# EAGLE library part IC40HX-144 (library Custom)
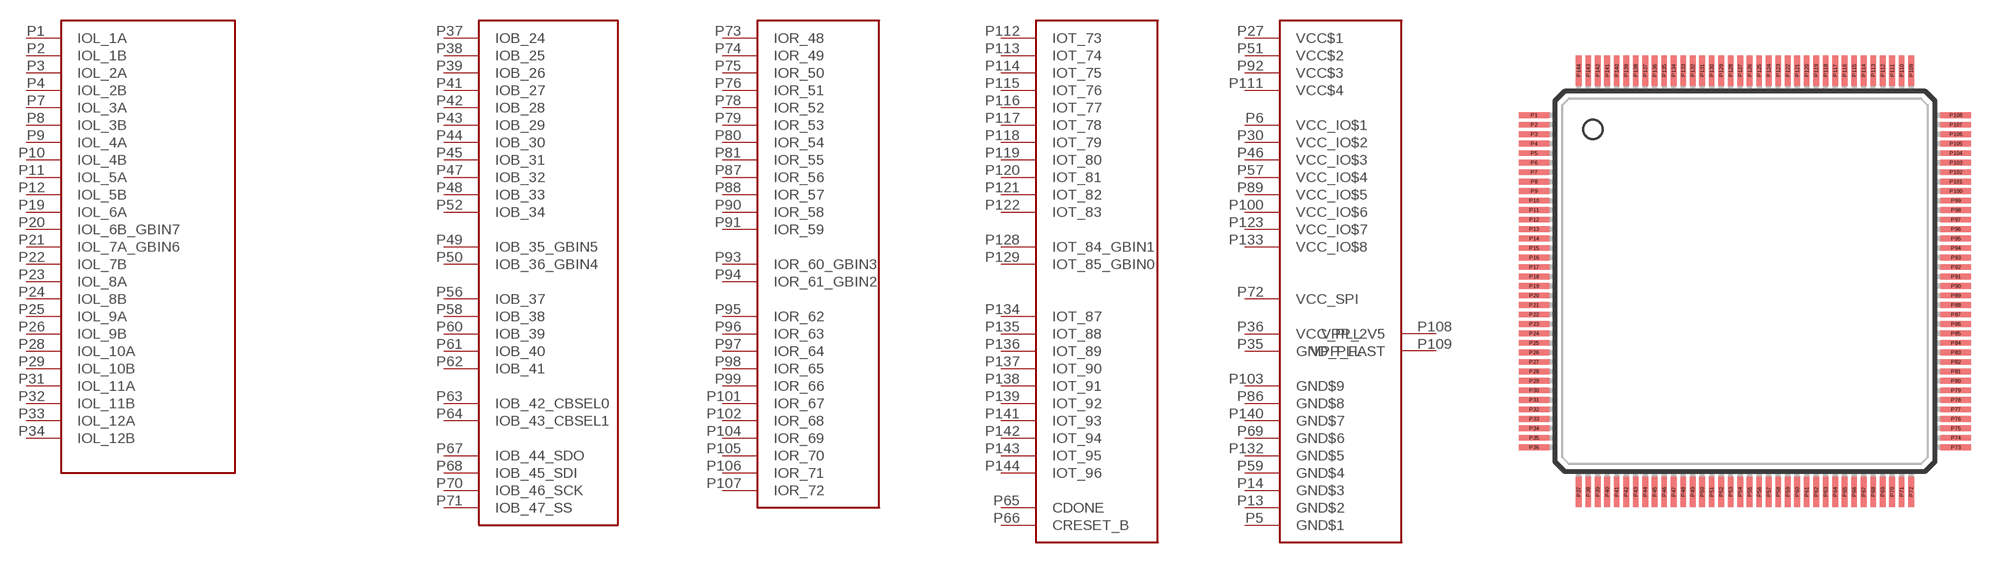
[diagram p40: symbol with the pads of TQ144; footprint TQ144]

Designator prefix -

## IC40HX-144  [TQ144]
P1  IOL_1A
P2  IOL_1B
P3  IOL_2A
P4  IOL_2B
P5  GND$1  pwr
P6  VCC_IO$1  pwr
P7  IOL_3A
P8  IOL_3B
P9  IOL_4A
P10  IOL_4B
P11  IOL_5A
P12  IOL_5B
P13  GND$2  pwr
P14  GND$3  pwr
P19  IOL_6A
P20  IOL_6B_GBIN7
P21  IOL_7A_GBIN6
P22  IOL_7B
P23  IOL_8A
P24  IOL_8B
P25  IOL_9A
P26  IOL_9B
P27  VCC$1  pwr
P28  IOL_10A
P29  IOL_10B
P30  VCC_IO$2  pwr
P31  IOL_11A
P32  IOL_11B
P33  IOL_12A
P34  IOL_12B
P35  GND_PLL  pwr
P36  VCC_PLL  pwr
P37  IOB_24
P38  IOB_25
P39  IOB_26
P41  IOB_27
P42  IOB_28
P43  IOB_29
P44  IOB_30
P45  IOB_31
P46  VCC_IO$3  pwr
P47  IOB_32
P48  IOB_33
P49  IOB_35_GBIN5
P50  IOB_36_GBIN4
P51  VCC$2  pwr
P52  IOB_34
P56  IOB_37
P57  VCC_IO$4  pwr
P58  IOB_38
P59  GND$4  pwr
P60  IOB_39
P61  IOB_40
P62  IOB_41
P63  IOB_42_CBSEL0
P64  IOB_43_CBSEL1
P65  CDONE
P66  CRESET_B
P67  IOB_44_SDO
P68  IOB_45_SDI
P69  GND$6  pwr
P70  IOB_46_SCK
P71  IOB_47_SS
P72  VCC_SPI  pwr
P73  IOR_48
P74  IOR_49
P75  IOR_50
P76  IOR_51
P78  IOR_52
P79  IOR_53
P80  IOR_54
P81  IOR_55
P86  GND$8  pwr
P87  IOR_56
P88  IOR_57
P89  VCC_IO$5  pwr
P90  IOR_58
P91  IOR_59
P92  VCC$3  pwr
P93  IOR_60_GBIN3
P94  IOR_61_GBIN2
P95  IOR_62
P96  IOR_63
P97  IOR_64
P98  IOR_65
P99  IOR_66
P100  VCC_IO$6  pwr
P101  IOR_67
P102  IOR_68
P103  GND$9  pwr
P104  IOR_69
P105  IOR_70
P106  IOR_71
P107  IOR_72
P108  VPP_2V5  pwr
P109  VPP_FAST  pwr
P111  VCC$4  pwr
P112  IOT_73
P113  IOT_74
P114  IOT_75
P115  IOT_76
P116  IOT_77
P117  IOT_78
P118  IOT_79
P119  IOT_80
P120  IOT_81
P121  IOT_82
P122  IOT_83
P123  VCC_IO$7  pwr
P128  IOT_84_GBIN1
P129  IOT_85_GBIN0
P132  GND$5  pwr
P133  VCC_IO$8  pwr
P134  IOT_87
P135  IOT_88
P136  IOT_89
P137  IOT_90
P138  IOT_91
P139  IOT_92
P140  GND$7  pwr
P141  IOT_93
P142  IOT_94
P143  IOT_95
P144  IOT_96

## Footprint TQ144 (pad centres in mm)
TQ144 TQG144
smd 1.6 x 0.3: P1 -11.1,8.75; P2 -11.1,8.25; P3 -11.1,7.75; P4 -11.1,7.25; P5 -11.1,6.75; P6 -11.1,6.25; P7 -11.1,5.75; P8 -11.1,5.25; P9 -11.1,4.75; P10 -11.1,4.25; P11 -11.1,3.75; P12 -11.1,3.25; P13 -11.1,2.75; P14 -11.1,2.25; P15 -11.1,1.75; P16 -11.1,1.25; P17 -11.1,0.75; P18 -11.1,0.25; P19 -11.1,-0.25; P20 -11.1,-0.75; P21 -11.1,-1.25; P22 -11.1,-1.75; P23 -11.1,-2.25; P24 -11.1,-2.75; P25 -11.1,-3.25; P26 -11.1,-3.75; P27 -11.1,-4.25; P28 -11.1,-4.75; P29 -11.1,-5.25; P30 -11.1,-5.75; P31 -11.1,-6.25; P32 -11.1,-6.75; P33 -11.1,-7.25; P34 -11.1,-7.75; P35 -11.1,-8.25; P36 -11.1,-8.75; P73 11.1,-8.75; P74 11.1,-8.25; P75 11.1,-7.75; P76 11.1,-7.25; P77 11.1,-6.75; P78 11.1,-6.25; P79 11.1,-5.75; P80 11.1,-5.25; P81 11.1,-4.75; P82 11.1,-4.25; P83 11.1,-3.75; P84 11.1,-3.25; P85 11.1,-2.75; P86 11.1,-2.25; P87 11.1,-1.75; P88 11.1,-1.25; P89 11.1,-0.75; P90 11.1,-0.25; P91 11.1,0.25; P92 11.1,0.75; P93 11.1,1.25; P94 11.1,1.75; P95 11.1,2.25; P96 11.1,2.75; P97 11.1,3.25; P98 11.1,3.75; P99 11.1,4.25; P100 11.1,4.75; P101 11.1,5.25; P102 11.1,5.75; P103 11.1,6.25; P104 11.1,6.75; P105 11.1,7.25; P106 11.1,7.75; P107 11.1,8.25; P108 11.1,8.75
smd 0.3 x 1.6: P37 -8.75,-11.1; P38 -8.25,-11.1; P39 -7.75,-11.1; P40 -7.25,-11.1; P41 -6.75,-11.1; P42 -6.25,-11.1; P43 -5.75,-11.1; P44 -5.25,-11.1; P45 -4.75,-11.1; P46 -4.25,-11.1; P47 -3.75,-11.1; P48 -3.25,-11.1; P49 -2.75,-11.1; P50 -2.25,-11.1; P51 -1.75,-11.1; P52 -1.25,-11.1; P53 -0.75,-11.1; P54 -0.25,-11.1; P55 0.25,-11.1; P56 0.75,-11.1; P57 1.25,-11.1; P58 1.75,-11.1; P59 2.25,-11.1; P60 2.75,-11.1; P61 3.25,-11.1; P62 3.75,-11.1; P63 4.25,-11.1; P64 4.75,-11.1; P65 5.25,-11.1; P66 5.75,-11.1; P67 6.25,-11.1; P68 6.75,-11.1; P69 7.25,-11.1; P70 7.75,-11.1; P71 8.25,-11.1; P72 8.75,-11.1; P109 8.75,11.1; P110 8.25,11.1; P111 7.75,11.1; P112 7.25,11.1; P113 6.75,11.1; P114 6.25,11.1; P115 5.75,11.1; P116 5.25,11.1; P117 4.75,11.1; P118 4.25,11.1; P119 3.75,11.1; P120 3.25,11.1; P121 2.75,11.1; P122 2.25,11.1; P123 1.75,11.1; P124 1.25,11.1; P125 0.75,11.1; P126 0.25,11.1; P127 -0.25,11.1; P128 -0.75,11.1; P129 -1.25,11.1; P130 -1.75,11.1; P131 -2.25,11.1; P132 -2.75,11.1; P133 -3.25,11.1; P134 -3.75,11.1; P135 -4.25,11.1; P136 -4.75,11.1; P137 -5.25,11.1; P138 -5.75,11.1; P139 -6.25,11.1; P140 -6.75,11.1; P141 -7.25,11.1; P142 -7.75,11.1; P143 -8.25,11.1; P144 -8.75,11.1